# Altium schematic symbol library Resistors.SchLib: 9 symbols
Pins are listed as number, name and electrical type; pins without a type are passive.

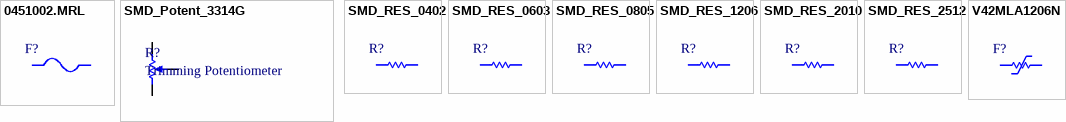
[diagram p0: symbols 0451002.MRL to V42MLA1206N]

## 0451002.MRL
designator F?  (value not drawn)
SMD fuse; Manufacturer: LittleFuse; Maximum Voltage: 125V; Rating current: 2A; Part Number: 0451002.MRL
footprint FUSE_045X (Littlefuse)
pins: 1, 2

## SMD_Potent_3314G
designator R?, comment Trimming Potentiometer
Part Number: 3314G-1; Manufacturer: Bourns; Value: DNI; Tolerance: *; Total Power Dissipation: *
footprint 3314G
pins: CCW -, CW +, W

## SMD_RES_0402
designator R?, comment Res_0402  (value not drawn)
Thick-Film SMD Resistor; Part Number: Resistor SMD 0402; Tolerance: *; Total Power Dissipation: *; Value: *
footprint R0402 (1005M)
pins: 1, 2

## SMD_RES_0603
designator R?, comment Res_0603  (value not drawn)
Thick-Film SMD Resistor; Part Number: Resistor SMD 0603; Tolerance: *; Total Power Dissipation: *; Value: *
footprint R0603 (1608M)
pins: 1, 2

## SMD_RES_0805
designator R?, comment Res_0805  (value not drawn)
Thick-Film SMD Resistor; Part Number: Resistor SMD 0805; Tolerance: *; Total Power Dissipation: *; Value: *
footprint R0805 (2012M)
pins: 1, 2

## SMD_RES_1206
designator R?, comment Res_1206  (value not drawn)
Thick-Film SMD Resistor; Part Number: Resistor SMD 1206; Tolerance: *; Total Power Dissipation: *; Value: *
footprint R1206 (3216M)
pins: 1, 2

## SMD_RES_2010
designator R?, comment Res_2010  (value not drawn)
Thick-Film SMD Resistor; Part Number: Resistor SMD 2010; Tolerance: *; Total Power Dissipation: *; Value: *
footprint R2010 (5025М)
pins: 1, 2

## SMD_RES_2512
designator R?, comment Res_2512  (value not drawn)
Thick-Film SMD Resistor; Part Number: Resistor SMD 2512; Tolerance: *; Total Power Dissipation: *; Value: *
footprint R2512 (6432M)
pins: 1, 2

## V42MLA1206N
designator F?  (value not drawn)
Metall-Oxide SMD varistor; Manufacturer: LittleFuse; Maximum CW Voltage: 42Vdc, 30Vac; Maximum Clamping Voltage: 92V at 1A; Part Number: V42MLA1206N
footprint MLA1206 (LittleFuse_varistor_mla)
pins: 1, 2